# EAGLE library part STD020M09X2 (library con-pinheader-standard)
male standard header 2mm
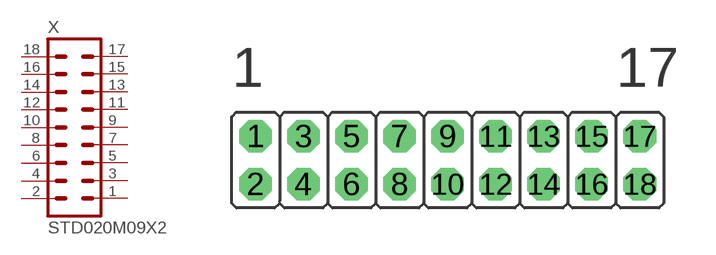
[diagram p57: symbol with the pads of STD020M09X2-2.00; footprint STD020M09X2-2.00]

Designator prefix X

## STD020M09X2-2.00MM  [STD020M09X2-2.00]
1  1  pas
2  2  pas
3  3  pas
4  4  pas
5  5  pas
6  6  pas
7  7  pas
8  8  pas
9  9  pas
10  10  pas
11  11  pas
12  12  pas
13  13  pas
14  14  pas
15  15  pas
16  16  pas
17  17  pas
18  18  pas

## Footprint STD020M09X2-2.00 (pad centres in mm)
male standard header 2mm
drill 0.85 octagon: 1 -8,1; 2 -8,-1; 3 -6,1; 4 -6,-1; 5 -4,1; 6 -4,-1; 7 -2,1; 8 -2,-1; 9 0,1; 10 0,-1; 11 2,1; 12 2,-1; 13 4,1; 14 4,-1; 15 6,1; 16 6,-1; 17 8,1; 18 8,-1